# Altium schematic symbol library OPAMP(1.8-5.5V, 1-Op, 1MHz, SOT-23-5).SchLib: 1 symbol
Pins are listed as number, name and electrical type; pins without a type are passive.

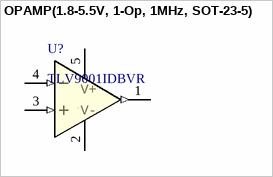
[diagram p0: symbol OPAMP(1.8-5.5V, 1-Op, 1MHz, SOT-23-5)]

## OPAMP(1.8-5.5V, 1-Op, 1MHz, SOT-23-5)
designator U?, comment TLV9001IDBVR
One-channel, 1-MHz rail-to-rail input and output 1.8-V to 5.5-V operational amplifier 5-SOT-23 -40 to 125; Manufacturer: Texas Instruments; Manufacturer_PN: TLV9001IDBVR; Package: SOT-23-5; Datasheet: https://www.ti.com/lit/ds/symlink/tlv9001.pdf?HQS=dis-dk-null-digikeymode-dsf-pf-null-wwe&ts=1765871952511&ref_url=https%253A%252F%252Fwww.ti.com%252Fgeneral%252Fdocs%252Fsuppproductinfo.tsp%253FdistId%253D10%2526gotoUrl%253Dhttps%253A%252F%252Fwww.ti.com%252Flit%252Fgpn%252Ftlv9001; Digikey_Link: https://www.digikey.it/en/products/detail/texas-instruments/TLV9001IDBVR/9665962
footprint DBV0005A_L
pins: 1 OUT (out), 2 V- (power), 3 IN+ (in), 4 IN- (in), 5 V+ (power)